# Altium schematic symbol library Q_NFET_DUAL_6PIN_EP.SchLib: 1 symbol
Pins are listed as number, name and electrical type; pins without a type are passive.

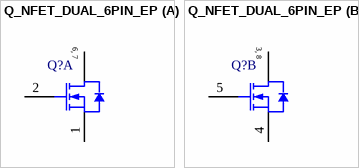
[diagram p0: symbol Q_NFET_DUAL_6PIN_EP]

## Q_NFET_DUAL_6PIN_EP
designator Q?  (value not drawn)
part A pins: 1 S1, 2 G1, 6 D1, EP1 D1
part B pins: 3 D2, 4 S2, 5 G2, EP2 D2
part A text: 6, 7
part B text: 3, 8